# EAGLE library part AS5048A (library as5048a)
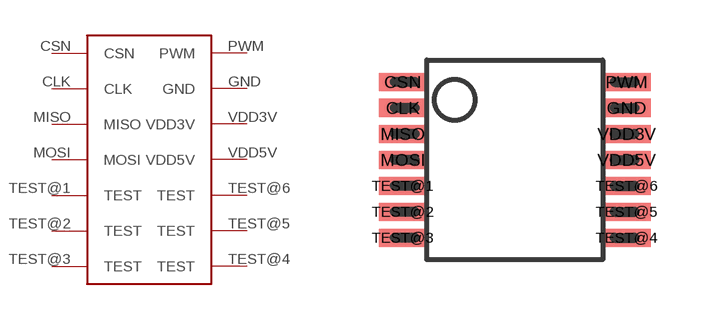
[diagram p0: symbol with the pads of TSSOP14; footprint TSSOP14]

Designator prefix -

## AS5048A  [TSSOP14]
CLK  CLK  in
CSN  CSN  in
GND  GND  sup
MISO  MISO
MOSI  MOSI  in
PWM  PWM  out
TEST@1  TEST
TEST@2  TEST
TEST@3  TEST
TEST@4  TEST
TEST@5  TEST
TEST@6  TEST
VDD3V  VDD3V  sup
VDD5V  VDD5V  sup

## Footprint TSSOP14 (pad centres in mm)
smd 1.2 x 0.45: CLK -2.8,1.3; CSN -2.8,1.95; GND 2.8,1.3; MISO -2.8,0.65; MOSI -2.8,0; PWM 2.8,1.95; TEST@1 -2.8,-0.65; TEST@2 -2.8,-1.3; TEST@3 -2.8,-1.95; TEST@4 2.8,-1.95; TEST@5 2.8,-1.3; TEST@6 2.8,-0.65; VDD3V 2.8,0.65; VDD5V 2.8,0